# EAGLE library part UV_SENSOR_AS7331 (library SparkFun_Qwiic_UV_Sensor_AS7331)
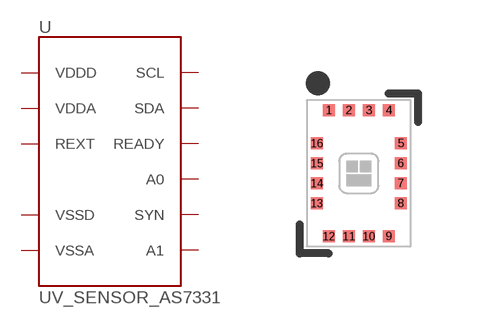
[diagram p0: symbol with the pads of OLGA16; footprint OLGA16]

Designator prefix U

## UV_SENSOR_AS7331 (PROD_ID: IC-20090; VALUE: AS7331)  [OLGA16]
1  VSSA  pwr
2  VSSA  pwr
3  VDDA  pwr
4  REXT
5  VSSA  pwr
6  VSSA  pwr
7  A1  in
8  SYN  in
9  READY  out
10  VDDD  pwr
11  VSSD  pwr
12  SDA
13  SCL  in
14  A0  in
15  VSSA  pwr
16  VSSA  pwr

## Footprint OLGA16 (pad centres in mm)
smd 0.3 x 0.3: 1 -0.75,1.575; 2 -0.25,1.575; 3 0.25,1.575; 4 0.75,1.575; 5 1.05,0.75; 6 1.05,0.25; 7 1.05,-0.25; 8 1.05,-0.75; 9 0.75,-1.575; 10 0.25,-1.575; 11 -0.25,-1.575; 12 -0.75,-1.575; 13 -1.05,-0.75; 14 -1.05,-0.25; 15 -1.05,0.25; 16 -1.05,0.75